# Altium schematic symbol library Connectors.SchLib: 81 symbols (part 2 of 2)
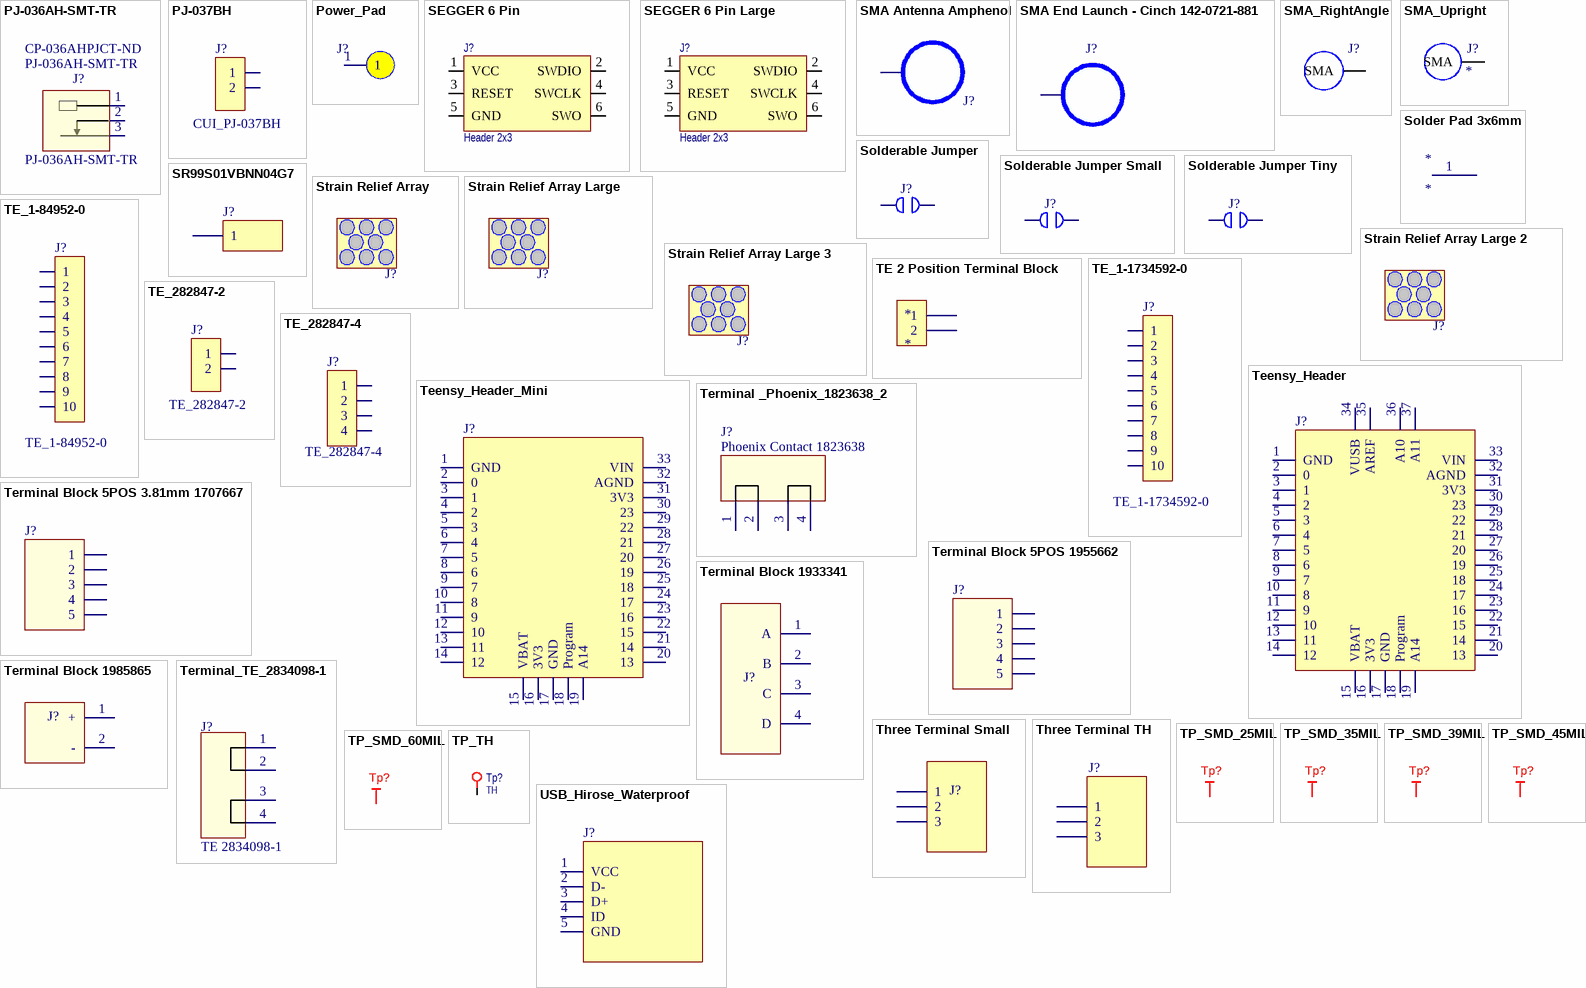
[diagram p3: symbols PJ-036AH-SMT-TR to USB_Hirose_Waterproof]

## Terminal_TE_2834098-1
designator J?, comment TE 2834098-1
Terminal Block, Two Positions, 5.0 mm, Screwless; Manufacturer: TE Connectivity; Pitch Spacing: 5mm; No. of Positions: 2Ways; Wire Size AWG Min: 28AWG; Wire Size AWG Max: 12AWG; Wire Connection Method: Clamp; Rated Current: 20A; Rated Voltage: 300V; Block Orientation: Through Hole Right Angle; Product Range: MSC Series; SVHC: No SVHC (17-Dec-2015); Supplier 1: Digi-Key; Manufacturer Part Number: 2834098-1; Stock 1: 3586; Pricing 1: 1=0.96, 10=0.596, 50=0.4584, 100=0.4489, 250=0.382, 500=0.3629, 1000=0.3247, 2500=0.2579 (USD); Conductor Area CSA: -; ComponentLink1URL: http://www.farnell.com/cad/2068407.pdf; ComponentLink1Description: http://www.farnell.com/cad/2068407.pdf; Supplier Part Number 1: A124221-ND
footprint Terminal_TE_2834098 (2 Position Terminal Block)
pins: 1 (power), 2 (power), 3 (power), 4 (power)

## Three Terminal Small
designator J?  (value not drawn)
footprint Laser Solder Small
pins: 1, 2, 3

## Three Terminal TH
designator J?  (value not drawn)
footprint Header 3 POS
pins: 1, 2, 3

## TP_SMD_25MIL
designator Tp?, comment PAD  (value not drawn)  (no BOM)
SMD Test Pad; Manufacturer: No P/N Required; P/N: No P/N; UM: EA; Fast Supplier: No P/N Required; Fast Supplier P/N: No P/N Required; Manufacturer P/N: No P/N Required
footprint TP_SMD_25mil (SMD Test Point)
pins: 1

## TP_SMD_35MIL
designator Tp?, comment PAD  (value not drawn)  (no BOM)
SMD Test Pad; Manufacturer: No P/N Required; P/N: No P/N; UM: EA; Fast Supplier: No P/N Required; Fast Supplier P/N: No P/N Required; Manufacturer P/N: No P/N Required
footprint TP_SMD_35MIL
pins: 1

## TP_SMD_39MIL
designator Tp?, comment PAD  (value not drawn)  (no BOM)
SMD Test Pad; Manufacturer: No P/N Required; P/N: No P/N; UM: EA; Fast Supplier: No P/N Required; Fast Supplier P/N: No P/N Required; Manufacturer P/N: No P/N Required
footprint TP_SMD_39MIL (SMD Test Point)
pins: 1

## TP_SMD_45MIL
designator Tp?, comment PAD  (value not drawn)  (no BOM)
SMD Test Pad; Manufacturer: No P/N Required; P/N: No P/N; UM: EA; Fast Supplier: No P/N Required; Fast Supplier P/N: No P/N Required; Manufacturer P/N: No P/N Required
footprint TP_SMD_45MIL (SMD Test Point)
pins: 1

## TP_SMD_60MIL
designator Tp?, comment PAD  (value not drawn)  (no BOM)
SMD Test Pad; Manufacturer: No P/N Required; P/N: No P/N; UM: EA; Fast Supplier: No P/N Required; Fast Supplier P/N: No P/N Required; Manufacturer P/N: No P/N Required
footprint TP_SMD_60MIL (SMD Test Point)
pins: 1

## TP_TH
designator Tp?, comment TH
Term,PCB Test Rng,2.8mm dia,Ph Brz,Au Pld; Manufacturer: Pin Good; Manufacturer P/N: Pin Good JT-0 (Taiwan); P/N: 652-054-10; UM: EA
footprint TP_TH-5000-RED (Test Point,Miniature,Keystone,5000,Red)
pins: 1

## USB_Hirose_Waterproof
designator J?  (value not drawn)
footprint ZX62WRD-B-5PC
pins: 1 VCC, 2 D-, 3 D+, 4 ID, 5 GND

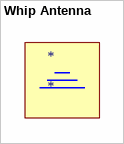
[diagram p2: symbol Whip Antenna]

## Whip Antenna
designator *
footprint Whip Antenna